# Altium footprint library TSW-103-22-G-S.PcbLib: 1 footprints
Each footprint in its own frame and in the unit in brackets; x right, y up, seen from the top. Pads: shape width x height; smd on the part's side, far side on the other; paste and mask are expansions set on the pad; w line width, h text height; cw(c..) or ccw(c..) is an arc to the next point about the centre after c.
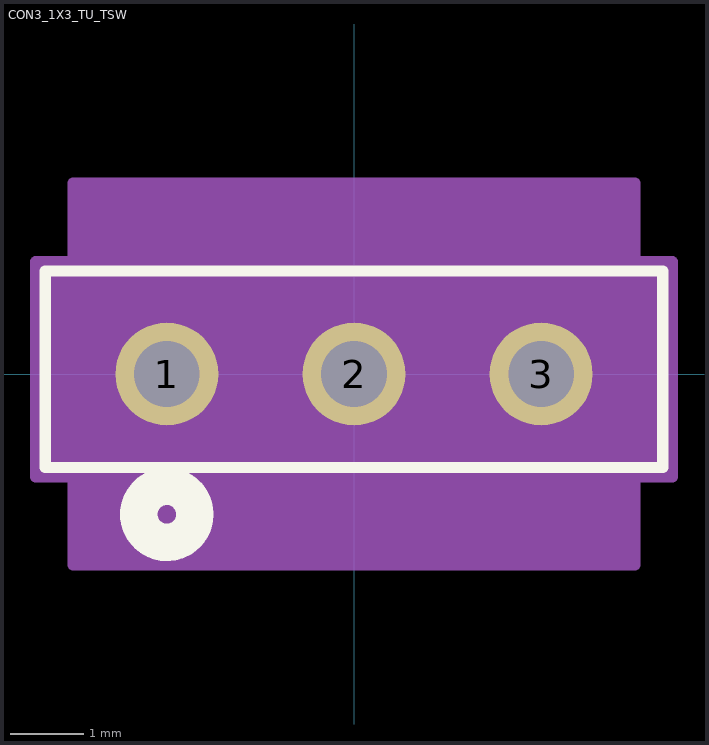
[diagram p0: the footprint, top view; thin cyan lines are the x and y axes]

## CON3_1X3_TU_TSW [mil]
pads (3):
  round 55 hole 35 paste-27.5 mask+0: 1(-100,0) 2(0,0) 3(100,0)
Top Overlay:
  circle w20: c-100,-75 r15
  lines w6: -165,-50 165,-50 165,55 -165,55 -165,-50
  text ".Designator" at -137.5,-25 h50
Bottom Overlay:
  circle w20: c-100,-75 r15
Mechanical 13:
  circle w1: c-100,0 r10
  lines w1: -160,-45 160,-45 160,50 -160,50 -160,-45
  text ".Designator" at -137.5,-25 h50
Mechanical 15:
  region: 170,60 150,60 150,102 -150,102 -150,60 -170,60 -170,-55 -150,-55 -150,-102 150,-102 150,-55 170,-55
  lines w6: -170,-55 -170,60 -150,60 -150,102 150,102 150,60 170,60 170,-55 150,-55 150,-102 -150,-102 -150,-55 -170,-55
3D body "CON3_1X3_TU_TSW.step": height 500, standoff -200, extent -150,-50 150,50